# Altium schematic symbol library ADTSM32RVTR.SchLib: 1 symbol
Pins are listed as number, name and electrical type; pins without a type are passive.

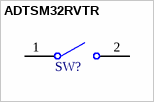
[diagram p0: symbol ADTSM32RVTR]

## ADTSM32RVTR
designator SW?  (value not drawn)
ADTSM32RVTR SWITCH, TACTILE, SPST-NO, 50mA, 12VDC SMD; Manufacturer: APEM; ID: CMP-0800-0004; DefaultDesignator: SW?; Class: Button; Manufacturer_PN: ADTSM32RVTR; ComponentLink1Description: Datasheet; ComponentLink2Description: Manufacturer
footprint ADTSM32RVTR (ADTSM32RVTR SWITCH, TACTILE, SPST-NO, 50mA, 12VDC SMD)
pins: 1, 2